# Altium integrated library Transistor.IntLib: 3457 symbols (part 24 of 78)
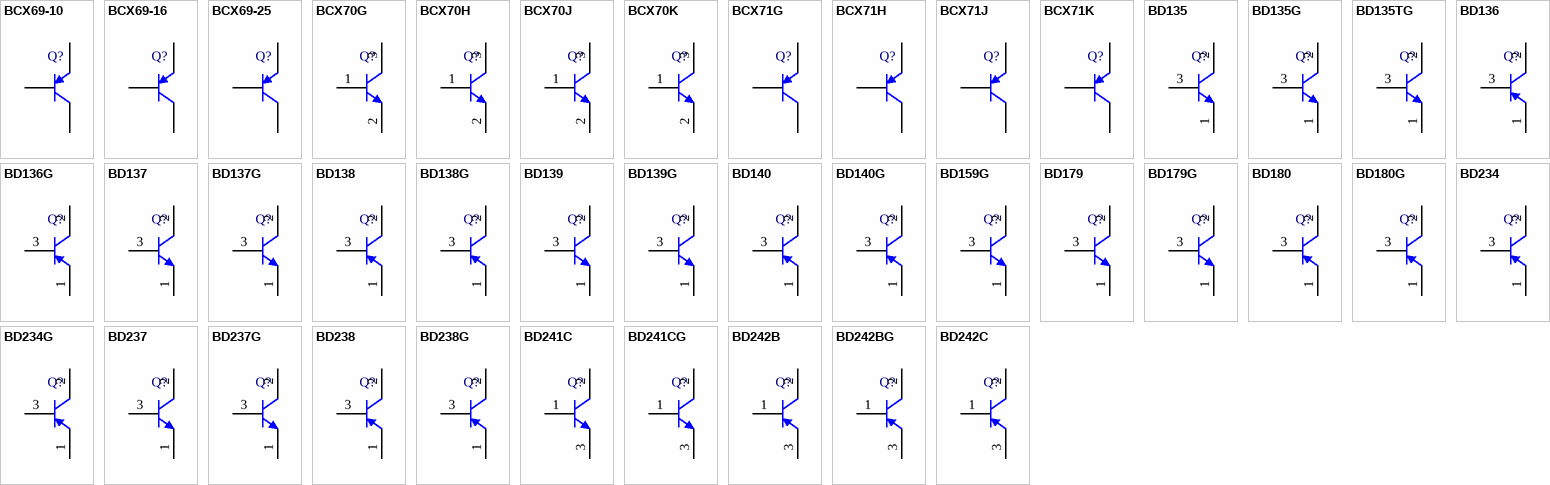
[diagram p117: symbols BCX69-10 to BD242C]

## BCX69-16
designator Q?
PNP Silicon AF Transistor, 20 V VCEO, 1000 mA IC, SOT89, Reel, Green; Manufacturer: Infineon; PartNumber: BCX69-16; fT (typ): 100 MHz; Green: TRUE; IC: 1,000 mA; ICBO (max): 100 nA; ICM (max): 2,000 mA; Ptot (max): 3,000 mW; VCBO (max): 25 V; VCE: 1 V; VCEO (max): 20 V; VEBO (max): 5 V; PackageVersion: Apr-08; PackageReference: SOT89 (SC-62); PackageDescription: 3-Pin Small Outline Transistor Package, 4.5 x 2.5 mm Body, 1.5 mm Pitch; Supplier 1: Mouser; Supplier Part Number 1: N/A; IC (max): 1,000 mA; Packing: Reel; Polarity: PNP; Mounting Technology: Surface Mount; ComponentLink1Description: Manufacturer URL; ComponentLink1URL: http://www.infineon.com/; ComponentLink2Description: Datasheet; ComponentLink2URL: http://www.infineon.com/dgdl/bcx69.pdf?folderId=db3a304314dca38901155ffc06d51dc7&fileId=db3a3043156fd573011589f3f56603ee; ComponentLink3Description: Package Specification; ComponentLink3URL: http://www.infineon.com/dgdl/SOT89-Package_Overview.pdf?folderId=db3a30431936bc4b01195371b8363cff&fileId=db3a30431936bc4b0119537ed61d3d22
footprint INF-SOT89_SC-62_N (SOT89, 3-Leads, Body 4.5x2.5mm, Pitch 1.5mm, IPC Medium Density)
footprint INF-SOT89_SC-62_L (SOT89, 3-Leads, Body 4.5x2.5mm, Pitch 1.5mm, IPC High Density)
footprint INF-SOT89_SC-62_M (SOT89, 3-Leads, Body 4.5x2.5mm, Pitch 1.5mm, IPC Low Density)
pins: 1 B, 2 C, 3 E

## BCX69-25
designator Q?
PNP Silicon AF Transistor, 20 V VCEO, 1000 mA IC, SOT89, Reel, Green; Manufacturer: Infineon; PartNumber: BCX69-25; fT (typ): 100 MHz; Green: TRUE; IC: 1,000 mA; ICBO (max): 100 nA; ICM (max): 2,000 mA; Ptot (max): 3,000 mW; VCBO (max): 25 V; VCE: 1 V; VCEO (max): 20 V; VEBO (max): 5 V; PackageVersion: Apr-08; PackageReference: SOT89 (SC-62); PackageDescription: 3-Pin Small Outline Transistor Package, 4.5 x 2.5 mm Body, 1.5 mm Pitch; Supplier 1: Mouser; Supplier Part Number 1: N/A; IC (max): 1,000 mA; Packing: Reel; Polarity: PNP; Mounting Technology: Surface Mount; ComponentLink1Description: Manufacturer URL; ComponentLink1URL: http://www.infineon.com/; ComponentLink2Description: Datasheet; ComponentLink2URL: http://www.infineon.com/dgdl/bcx69.pdf?folderId=db3a304314dca38901155ffc06d51dc7&fileId=db3a3043156fd573011589f3f56603ee; ComponentLink3Description: Package Specification; ComponentLink3URL: http://www.infineon.com/dgdl/SOT89-Package_Overview.pdf?folderId=db3a30431936bc4b01195371b8363cff&fileId=db3a30431936bc4b0119537ed61d3d22
footprint INF-SOT89_SC-62_N (SOT89, 3-Leads, Body 4.5x2.5mm, Pitch 1.5mm, IPC Medium Density)
footprint INF-SOT89_SC-62_L (SOT89, 3-Leads, Body 4.5x2.5mm, Pitch 1.5mm, IPC High Density)
footprint INF-SOT89_SC-62_M (SOT89, 3-Leads, Body 4.5x2.5mm, Pitch 1.5mm, IPC Low Density)
pins: 1 B, 2 C, 3 E

## BCX70G
designator Q?
NPN Silicon AF Transistor, 45 V VCEO, 100 mA IC, SOT23, Reel, Green; Manufacturer: Infineon; PartNumber: BCX70G; F (typ): 2 dB; fT (typ): 250 MHz; Green: TRUE; IBM (max): 200 mA; IC (max): 100 mA; ICBO (max): 20 nA; Ptot (max): 330 mW; VCBO (max): 45 V; VEBO (max): 6 V; PackageVersion: Apr-08; PackageReference: SOT23; PackageDescription: 3-Pin Small Outline Transistor Package, 1.3 x 2.9 mm Body, 0.95 mm Pitch; ICM (max): 200 mA; Packing: Reel; Polarity: NPN; VCEO (max): 45 V; Mounting Technology: Surface Mount; ComponentLink1Description: Manufacturer URL; ComponentLink1URL: http://www.infineon.com/; ComponentLink2Description: Datasheet; ComponentLink2URL: http://www.infineon.com/dgdl/bcw60_bcx70.pdf?folderId=db3a304314dca389011541d30fa21656&fileId=db3a304314dca38901154219c9141726; ComponentLink3Description: Package Specification; ComponentLink3URL: http://www.infineon.com/dgdl/SOT23-Package_Overview.pdf?folderId=db3a30431936bc4b0119532290053c66&fileId=db3a30431936bc4b0119533468123c85
footprint INF-SOT23_N (SOT23, 3-Leads, Body 2.9x1.3 mm, Pitch 0.95 mm, IPC Medium Density)
footprint INF-SOT23_L (SOT23, 3-Leads, Body 2.9x1.3 mm, Pitch 0.95 mm, IPC High Density)
footprint INF-SOT23_M (SOT23, 3-Leads, Body 2.9x1.3 mm, Pitch 0.95 mm, IPC Low Density)
pins: 1 B, 2 E, 3 C

## BCX70H
designator Q?
NPN Silicon AF Transistor, 45 V VCEO, 100 mA IC, SOT23, Reel, Green; Manufacturer: Infineon; PartNumber: BCX70H; F (typ): 2 dB; fT (typ): 250 MHz; Green: TRUE; IBM (max): 200 mA; IC (max): 100 mA; ICBO (max): 20 nA; Ptot (max): 330 mW; VCBO (max): 45 V; VEBO (max): 6 V; PackageVersion: Apr-08; PackageReference: SOT23; PackageDescription: 3-Pin Small Outline Transistor Package, 1.3 x 2.9 mm Body, 0.95 mm Pitch; Supplier 1: Arrow; Supplier Part Number 1: FTOF-B2iecUyD4HHQZ6z38XLvdhF-FXEEL7tAjIsqBs; ICM (max): 200 mA; Packing: Reel; Polarity: NPN; VCEO (max): 45 V; Mounting Technology: Surface Mount; ComponentLink1Description: Manufacturer URL; ComponentLink1URL: http://www.infineon.com/; ComponentLink2Description: Datasheet; ComponentLink2URL: http://www.infineon.com/dgdl/bcw60_bcx70.pdf?folderId=db3a304314dca389011541d30fa21656&fileId=db3a304314dca38901154219c9141726; ComponentLink3Description: Package Specification; ComponentLink3URL: http://www.infineon.com/dgdl/SOT23-Package_Overview.pdf?folderId=db3a30431936bc4b0119532290053c66&fileId=db3a30431936bc4b0119533468123c85
footprint INF-SOT23_N (SOT23, 3-Leads, Body 2.9x1.3 mm, Pitch 0.95 mm, IPC Medium Density)
footprint INF-SOT23_L (SOT23, 3-Leads, Body 2.9x1.3 mm, Pitch 0.95 mm, IPC High Density)
footprint INF-SOT23_M (SOT23, 3-Leads, Body 2.9x1.3 mm, Pitch 0.95 mm, IPC Low Density)
pins: 1 B, 2 E, 3 C

## BCX70J
designator Q?
NPN Silicon AF Transistor, 45 V VCEO, 100 mA IC, SOT23, Reel, Green; Manufacturer: Infineon; PartNumber: BCX70J; F (typ): 2 dB; fT (typ): 250 MHz; Green: TRUE; IBM (max): 200 mA; IC (max): 100 mA; ICBO (max): 20 nA; Ptot (max): 330 mW; VCBO (max): 45 V; VEBO (max): 6 V; PackageVersion: Apr-08; PackageReference: SOT23; PackageDescription: 3-Pin Small Outline Transistor Package, 1.3 x 2.9 mm Body, 0.95 mm Pitch; ICM (max): 200 mA; Packing: Reel; Polarity: NPN; VCEO (max): 45 V; Mounting Technology: Surface Mount; ComponentLink1Description: Manufacturer URL; ComponentLink1URL: http://www.infineon.com/; ComponentLink2Description: Datasheet; ComponentLink2URL: http://www.infineon.com/dgdl/bcw60_bcx70.pdf?folderId=db3a304314dca389011541d30fa21656&fileId=db3a304314dca38901154219c9141726; ComponentLink3Description: Package Specification; ComponentLink3URL: http://www.infineon.com/dgdl/SOT23-Package_Overview.pdf?folderId=db3a30431936bc4b0119532290053c66&fileId=db3a30431936bc4b0119533468123c85
footprint INF-SOT23_N (SOT23, 3-Leads, Body 2.9x1.3 mm, Pitch 0.95 mm, IPC Medium Density)
footprint INF-SOT23_L (SOT23, 3-Leads, Body 2.9x1.3 mm, Pitch 0.95 mm, IPC High Density)
footprint INF-SOT23_M (SOT23, 3-Leads, Body 2.9x1.3 mm, Pitch 0.95 mm, IPC Low Density)
pins: 1 B, 2 E, 3 C

## BCX70K
designator Q?
NPN Silicon AF Transistor, 45 V VCEO, 100 mA IC, SOT23, Reel, Green; Manufacturer: Infineon; PartNumber: BCX70K; F (typ): 2 dB; fT (typ): 250 MHz; Green: TRUE; IBM (max): 200 mA; IC (max): 100 mA; ICBO (max): 20 nA; Ptot (max): 330 mW; VCBO (max): 45 V; VEBO (max): 6 V; PackageVersion: Apr-08; PackageReference: SOT23; PackageDescription: 3-Pin Small Outline Transistor Package, 1.3 x 2.9 mm Body, 0.95 mm Pitch; ICM (max): 200 mA; Packing: Reel; Polarity: NPN; VCEO (max): 45 V; Mounting Technology: Surface Mount; ComponentLink1Description: Manufacturer URL; ComponentLink1URL: http://www.infineon.com/; ComponentLink2Description: Datasheet; ComponentLink2URL: http://www.infineon.com/dgdl/bcw60_bcx70.pdf?folderId=db3a304314dca389011541d30fa21656&fileId=db3a304314dca38901154219c9141726; ComponentLink3Description: Package Specification; ComponentLink3URL: http://www.infineon.com/dgdl/SOT23-Package_Overview.pdf?folderId=db3a30431936bc4b0119532290053c66&fileId=db3a30431936bc4b0119533468123c85
footprint INF-SOT23_N (SOT23, 3-Leads, Body 2.9x1.3 mm, Pitch 0.95 mm, IPC Medium Density)
footprint INF-SOT23_L (SOT23, 3-Leads, Body 2.9x1.3 mm, Pitch 0.95 mm, IPC High Density)
footprint INF-SOT23_M (SOT23, 3-Leads, Body 2.9x1.3 mm, Pitch 0.95 mm, IPC Low Density)
pins: 1 B, 2 E, 3 C

## BCX71G
designator Q?
PNP Silicon AF Transistor, 45 V VCEO, 100 mA IC, SOT23, Reel, Green; Manufacturer: Infineon; PartNumber: BCX71G; fT (typ): 250 MHz; Green: TRUE; IBM (max): 200 mA; IC (max): 100 mA; ICBO (max): 20 nA; Ptot (max): 330 mW; VCBO (max): 45 V; VEBO (max): 5 V; PackageVersion: Apr-08; PackageReference: SOT23; PackageDescription: 3-Pin Small Outline Transistor Package, 1.3 x 2.9 mm Body, 0.95 mm Pitch; ICM (max): 200 mA; Packing: Reel; Polarity: PNP; VCEO (max): 45 V; Mounting Technology: Surface Mount; ComponentLink1Description: Manufacturer URL; ComponentLink1URL: http://www.infineon.com/; ComponentLink2Description: Datasheet; ComponentLink2URL: http://www.infineon.com/dgdl/bcw61_bcx71.pdf?folderId=db3a304314dca389011541d30fa21656&fileId=db3a304314dca3890115422f2cbc173b; ComponentLink3Description: Package Specification; ComponentLink3URL: http://www.infineon.com/dgdl/SOT23-Package_Overview.pdf?folderId=db3a30431936bc4b0119532290053c66&fileId=db3a30431936bc4b0119533468123c85
footprint INF-SOT23_N (SOT23, 3-Leads, Body 2.9x1.3 mm, Pitch 0.95 mm, IPC Medium Density)
footprint INF-SOT23_L (SOT23, 3-Leads, Body 2.9x1.3 mm, Pitch 0.95 mm, IPC High Density)
footprint INF-SOT23_M (SOT23, 3-Leads, Body 2.9x1.3 mm, Pitch 0.95 mm, IPC Low Density)
pins: 1 B, 2 E, 3 C

## BCX71H
designator Q?
PNP Silicon AF Transistor, 45 V VCEO, 100 mA IC, SOT23, Reel, Green; Manufacturer: Infineon; PartNumber: BCX71H; fT (typ): 250 MHz; Green: TRUE; IBM (max): 200 mA; IC (max): 100 mA; ICBO (max): 20 nA; Ptot (max): 330 mW; VCBO (max): 45 V; VEBO (max): 5 V; PackageVersion: Apr-08; PackageReference: SOT23; PackageDescription: 3-Pin Small Outline Transistor Package, 1.3 x 2.9 mm Body, 0.95 mm Pitch; ICM (max): 200 mA; Packing: Reel; Polarity: PNP; VCEO (max): 45 V; Mounting Technology: Surface Mount; ComponentLink1Description: Manufacturer URL; ComponentLink1URL: http://www.infineon.com/; ComponentLink2Description: Datasheet; ComponentLink2URL: http://www.infineon.com/dgdl/bcw61_bcx71.pdf?folderId=db3a304314dca389011541d30fa21656&fileId=db3a304314dca3890115422f2cbc173b; ComponentLink3Description: Package Specification; ComponentLink3URL: http://www.infineon.com/dgdl/SOT23-Package_Overview.pdf?folderId=db3a30431936bc4b0119532290053c66&fileId=db3a30431936bc4b0119533468123c85
footprint INF-SOT23_N (SOT23, 3-Leads, Body 2.9x1.3 mm, Pitch 0.95 mm, IPC Medium Density)
footprint INF-SOT23_L (SOT23, 3-Leads, Body 2.9x1.3 mm, Pitch 0.95 mm, IPC High Density)
footprint INF-SOT23_M (SOT23, 3-Leads, Body 2.9x1.3 mm, Pitch 0.95 mm, IPC Low Density)
pins: 1 B, 2 E, 3 C

## BCX71J
designator Q?
PNP Silicon AF Transistor, 45 V VCEO, 100 mA IC, SOT23, Reel, Green; Manufacturer: Infineon; PartNumber: BCX71J; fT (typ): 250 MHz; Green: TRUE; IBM (max): 200 mA; IC (max): 100 mA; ICBO (max): 20 nA; Ptot (max): 330 mW; VCBO (max): 45 V; VEBO (max): 5 V; PackageVersion: Apr-08; PackageReference: SOT23; PackageDescription: 3-Pin Small Outline Transistor Package, 1.3 x 2.9 mm Body, 0.95 mm Pitch; ICM (max): 200 mA; Packing: Reel; Polarity: PNP; VCEO (max): 45 V; Mounting Technology: Surface Mount; ComponentLink1Description: Manufacturer URL; ComponentLink1URL: http://www.infineon.com/; ComponentLink2Description: Datasheet; ComponentLink2URL: http://www.infineon.com/dgdl/bcw61_bcx71.pdf?folderId=db3a304314dca389011541d30fa21656&fileId=db3a304314dca3890115422f2cbc173b; ComponentLink3Description: Package Specification; ComponentLink3URL: http://www.infineon.com/dgdl/SOT23-Package_Overview.pdf?folderId=db3a30431936bc4b0119532290053c66&fileId=db3a30431936bc4b0119533468123c85
footprint INF-SOT23_N (SOT23, 3-Leads, Body 2.9x1.3 mm, Pitch 0.95 mm, IPC Medium Density)
footprint INF-SOT23_L (SOT23, 3-Leads, Body 2.9x1.3 mm, Pitch 0.95 mm, IPC High Density)
footprint INF-SOT23_M (SOT23, 3-Leads, Body 2.9x1.3 mm, Pitch 0.95 mm, IPC Low Density)
pins: 1 B, 2 E, 3 C

## BCX71K
designator Q?
PNP Silicon AF Transistor, 45 V VCEO, 100 mA IC, SOT23, Reel, Green; Manufacturer: Infineon; PartNumber: BCX71K; F (typ): 2 dB; fT (typ): 250 MHz; Green: TRUE; IBM (max): 200 mA; IC (max): 100 mA; ICBO (max): 20 nA; Ptot (max): 330 mW; VCBO (max): 45 V; VEBO (max): 5 V; PackageVersion: Apr-08; PackageReference: SOT23; PackageDescription: 3-Pin Small Outline Transistor Package, 1.3 x 2.9 mm Body, 0.95 mm Pitch; ICM (max): 200 mA; Packing: Reel; Polarity: PNP; VCEO (max): 45 V; Mounting Technology: Surface Mount; ComponentLink1Description: Manufacturer URL; ComponentLink1URL: http://www.infineon.com/; ComponentLink2Description: Datasheet; ComponentLink2URL: http://www.infineon.com/dgdl/bcw61_bcx71.pdf?folderId=db3a304314dca389011541d30fa21656&fileId=db3a304314dca3890115422f2cbc173b; ComponentLink3Description: Package Specification; ComponentLink3URL: http://www.infineon.com/dgdl/SOT23-Package_Overview.pdf?folderId=db3a30431936bc4b0119532290053c66&fileId=db3a30431936bc4b0119533468123c85
footprint INF-SOT23_N (SOT23, 3-Leads, Body 2.9x1.3 mm, Pitch 0.95 mm, IPC Medium Density)
footprint INF-SOT23_L (SOT23, 3-Leads, Body 2.9x1.3 mm, Pitch 0.95 mm, IPC High Density)
footprint INF-SOT23_M (SOT23, 3-Leads, Body 2.9x1.3 mm, Pitch 0.95 mm, IPC Low Density)
pins: 1 B, 2 E, 3 C

## BD135
designator Q?
Plastic Medium-Power Silicon NPN Transistor, 3-Pin TO-225, Bulk Box; Manufacturer: On Semiconductor; PartNumber: BD135; IC Continuous (A): 1.5; DatasheetVersion: Rev. 16; PackageVersion: Rev. AC, 12/2013; PackageReference: TO-225-3-77-09; PackageDescription: 3-Pin Flange Mount, Vertical Straight Lead, Body 7.6 x 2.7 mm, Pitch 2.29 mm; Supplier 1: Digi-Key; Supplier Part Number 1: BD135OS-ND; Packing: Bulk Box; Polarity: NPN; RoHS: FALSE; Mounting Technology: Through Hole; ComponentLink1Description: Manufacturer URL; ComponentLink1URL: http://www.onsemi.com/; ComponentLink2Description: Datasheet; ComponentLink2URL: http://www.onsemi.com/pub_link/Collateral/BD135-D.PDF; ComponentLink3Description: Package Specification; ComponentLink3URL: http://www.onsemi.com/pub_link/Collateral/77-09.PDF
footprint ONSC-TO-225-3-77-09 (FM, 3-Leads, Body 7.8x3mm, Pitch 2.29mm)
pins: 1 E, 2 C, 3 B

## BD135G
designator Q?
Plastic Medium-Power Silicon NPN Transistor, 3-Pin TO-225, Pb-Free, Bulk Box; Manufacturer: On Semiconductor; PartNumber: BD135G; IC Continuous (A): 1.5; DatasheetVersion: Rev. 16; PackageVersion: Rev. AC, 12/2013; PackageReference: TO-225-3-77-09; PackageDescription: 3-Pin Flange Mount, Vertical Straight Lead, Body 7.6 x 2.7 mm, Pitch 2.29 mm; Supplier 1: Digi-Key; Supplier Part Number 1: BD135GOS-ND; Supplier 2: Farnell; Supplier Part Number 2: 1125946; Supplier 3: Newark; Supplier Part Number 3: 26K3491; Supplier 4: Mouser; Supplier Part Number 4: 863-BD135G; Packing: Bulk Box; Polarity: NPN; RoHS: TRUE; Mounting Technology: Through Hole; ComponentLink1Description: Manufacturer URL; ComponentLink1URL: http://www.onsemi.com/; ComponentLink2Description: Datasheet; ComponentLink2URL: http://www.onsemi.com/pub_link/Collateral/BD135-D.PDF; ComponentLink3Description: Package Specification; ComponentLink3URL: http://www.onsemi.com/pub_link/Collateral/77-09.PDF
footprint ONSC-TO-225-3-77-09 (FM, 3-Leads, Body 7.8x3mm, Pitch 2.29mm)
pins: 1 E, 2 C, 3 B

## BD135TG
designator Q?
Plastic Medium-Power Silicon NPN Transistor, 3-Pin TO-225, Pb-Free, Tube; Manufacturer: On Semiconductor; PartNumber: BD135TG; Note: 0; IC Continuous (A): 1.5; DatasheetVersion: Rev. 16; PackageVersion: Rev. AC, 12/2013; PackageReference: TO-225-3-77-09; PackageDescription: 3-Pin Flange Mount, Vertical Straight Lead, Body 7.6 x 2.7 mm, Pitch 2.29 mm; Packing: Tube; Polarity: NPN; RoHS: TRUE; Mounting Technology: Through Hole; ComponentLink1Description: Manufacturer URL; ComponentLink1URL: http://www.onsemi.com/; ComponentLink2Description: Datasheet; ComponentLink2URL: http://www.onsemi.com/pub_link/Collateral/BD135-D.PDF; ComponentLink3Description: Package Specification; ComponentLink3URL: http://www.onsemi.com/pub_link/Collateral/77-09.PDF
footprint ONSC-TO-225-3-77-09 (FM, 3-Leads, Body 7.8x3mm, Pitch 2.29mm)
pins: 1 E, 2 C, 3 B

## BD136
designator Q?
Plastic Medium-Power Silicon PNP Transistor, 3-Pin TO-225, Bulk Box; Manufacturer: On Semiconductor; PartNumber: BD136; IC Continuous (A): 1.5; DatasheetVersion: Rev. 15; PackageVersion: Rev. AC, 12/2013; PackageReference: TO-225-3-77-09; PackageDescription: 3-Pin Flange Mount, Vertical Straight Lead, Body 7.6 x 2.7 mm, Pitch 2.29 mm; Supplier 1: Digi-Key; Supplier Part Number 1: BD136OS-ND; Packing: Bulk Box; Polarity: PNP; RoHS: FALSE; Mounting Technology: Through Hole; ComponentLink1Description: Manufacturer URL; ComponentLink1URL: http://www.onsemi.com/; ComponentLink2Description: Datasheet; ComponentLink2URL: http://www.onsemi.com/pub_link/Collateral/BD136-D.PDF; ComponentLink3Description: Package Specification; ComponentLink3URL: http://www.onsemi.com/pub_link/Collateral/77-09.PDF
footprint ONSC-TO-225-3-77-09 (FM, 3-Leads, Body 7.8x3mm, Pitch 2.29mm)
pins: 1 E, 2 C, 3 B

## BD136G
designator Q?
Plastic Medium-Power Silicon PNP Transistor, 3-Pin TO-225, Pb-Free, Bulk Box; Manufacturer: On Semiconductor; PartNumber: BD136G; IC Continuous (A): 1.5; DatasheetVersion: Rev. 15; PackageVersion: Rev. AC, 12/2013; PackageReference: TO-225-3-77-09; PackageDescription: 3-Pin Flange Mount, Vertical Straight Lead, Body 7.6 x 2.7 mm, Pitch 2.29 mm; Supplier 1: Digi-Key; Supplier Part Number 1: BD136GOS-ND; Supplier 2: Newark; Supplier Part Number 2: 88H4575; Supplier 3: Mouser; Supplier Part Number 3: 863-BD136G; Packing: Bulk Box; Polarity: PNP; RoHS: TRUE; Mounting Technology: Through Hole; ComponentLink1Description: Manufacturer URL; ComponentLink1URL: http://www.onsemi.com/; ComponentLink2Description: Datasheet; ComponentLink2URL: http://www.onsemi.com/pub_link/Collateral/BD136-D.PDF; ComponentLink3Description: Package Specification; ComponentLink3URL: http://www.onsemi.com/pub_link/Collateral/77-09.PDF
footprint ONSC-TO-225-3-77-09 (FM, 3-Leads, Body 7.8x3mm, Pitch 2.29mm)
pins: 1 E, 2 C, 3 B

## BD137
designator Q?
Plastic Medium-Power Silicon NPN Transistor, 3-Pin TO-225, Bulk Box; Manufacturer: On Semiconductor; PartNumber: BD137; IC Continuous (A): 1.5; DatasheetVersion: Rev. 16; PackageVersion: Rev. AC, 12/2013; PackageReference: TO-225-3-77-09; PackageDescription: 3-Pin Flange Mount, Vertical Straight Lead, Body 7.6 x 2.7 mm, Pitch 2.29 mm; Supplier 1: Digi-Key; Supplier Part Number 1: BD137-ND; Packing: Bulk Box; Polarity: NPN; RoHS: FALSE; Mounting Technology: Through Hole; ComponentLink1Description: Manufacturer URL; ComponentLink1URL: http://www.onsemi.com/; ComponentLink2Description: Datasheet; ComponentLink2URL: http://www.onsemi.com/pub_link/Collateral/BD135-D.PDF; ComponentLink3Description: Package Specification; ComponentLink3URL: http://www.onsemi.com/pub_link/Collateral/77-09.PDF
footprint ONSC-TO-225-3-77-09 (FM, 3-Leads, Body 7.8x3mm, Pitch 2.29mm)
pins: 1 E, 2 C, 3 B

## BD137G
designator Q?
Plastic Medium-Power Silicon NPN Transistor, 3-Pin TO-225, Pb-Free, Bulk Box; Manufacturer: On Semiconductor; PartNumber: BD137G; IC Continuous (A): 1.5; DatasheetVersion: Rev. 16; PackageVersion: Rev. AC, 12/2013; PackageReference: TO-225-3-77-09; PackageDescription: 3-Pin Flange Mount, Vertical Straight Lead, Body 7.6 x 2.7 mm, Pitch 2.29 mm; Supplier 1: Digi-Key; Supplier Part Number 1: BD137GOS-ND; Supplier 2: Farnell; Supplier Part Number 2: 1653612; Supplier 3: Newark; Supplier Part Number 3: 26K3492; Supplier 4: Mouser; Supplier Part Number 4: 863-BD137G; Packing: Bulk Box; Polarity: NPN; RoHS: TRUE; Mounting Technology: Through Hole; ComponentLink1Description: Manufacturer URL; ComponentLink1URL: http://www.onsemi.com/; ComponentLink2Description: Datasheet; ComponentLink2URL: http://www.onsemi.com/pub_link/Collateral/BD135-D.PDF; ComponentLink3Description: Package Specification; ComponentLink3URL: http://www.onsemi.com/pub_link/Collateral/77-09.PDF
footprint ONSC-TO-225-3-77-09 (FM, 3-Leads, Body 7.8x3mm, Pitch 2.29mm)
pins: 1 E, 2 C, 3 B

## BD138
designator Q?
Plastic Medium-Power Silicon PNP Transistor, 3-Pin TO-225, Bulk Box; Manufacturer: On Semiconductor; PartNumber: BD138; IC Continuous (A): 1.5; DatasheetVersion: Rev. 15; PackageVersion: Rev. AC, 12/2013; PackageReference: TO-225-3-77-09; PackageDescription: 3-Pin Flange Mount, Vertical Straight Lead, Body 7.6 x 2.7 mm, Pitch 2.29 mm; Supplier 1: Digi-Key; Supplier Part Number 1: BD138-ND; Packing: Bulk Box; Polarity: PNP; RoHS: FALSE; Mounting Technology: Through Hole; ComponentLink1Description: Manufacturer URL; ComponentLink1URL: http://www.onsemi.com/; ComponentLink2Description: Datasheet; ComponentLink2URL: http://www.onsemi.com/pub_link/Collateral/BD136-D.PDF; ComponentLink3Description: Package Specification; ComponentLink3URL: http://www.onsemi.com/pub_link/Collateral/77-09.PDF
footprint ONSC-TO-225-3-77-09 (FM, 3-Leads, Body 7.8x3mm, Pitch 2.29mm)
pins: 1 E, 2 C, 3 B

## BD138G
designator Q?
Plastic Medium-Power Silicon PNP Transistor, 3-Pin TO-225, Pb-Free, Bulk Box; Manufacturer: On Semiconductor; PartNumber: BD138G; IC Continuous (A): 1.5; DatasheetVersion: Rev. 15; PackageVersion: Rev. AC, 12/2013; PackageReference: TO-225-3-77-09; PackageDescription: 3-Pin Flange Mount, Vertical Straight Lead, Body 7.6 x 2.7 mm, Pitch 2.29 mm; Supplier 1: Digi-Key; Supplier Part Number 1: BD138GOS-ND; Supplier 2: Newark; Supplier Part Number 2: 26K3493; Supplier 3: Mouser; Supplier Part Number 3: 863-BD138G; Packing: Bulk Box; Polarity: PNP; RoHS: TRUE; Mounting Technology: Through Hole; ComponentLink1Description: Manufacturer URL; ComponentLink1URL: http://www.onsemi.com/; ComponentLink2Description: Datasheet; ComponentLink2URL: http://www.onsemi.com/pub_link/Collateral/BD136-D.PDF; ComponentLink3Description: Package Specification; ComponentLink3URL: http://www.onsemi.com/pub_link/Collateral/77-09.PDF
footprint ONSC-TO-225-3-77-09 (FM, 3-Leads, Body 7.8x3mm, Pitch 2.29mm)
pins: 1 E, 2 C, 3 B

## BD139
designator Q?
Plastic Medium-Power Silicon NPN Transistor, 3-Pin TO-225, Bulk Box; Manufacturer: On Semiconductor; PartNumber: BD139; IC Continuous (A): 1.5; DatasheetVersion: Rev. 16; PackageVersion: Rev. AC, 12/2013; PackageReference: TO-225-3-77-09; PackageDescription: 3-Pin Flange Mount, Vertical Straight Lead, Body 7.6 x 2.7 mm, Pitch 2.29 mm; Supplier 1: Digi-Key; Supplier Part Number 1: BD139OS-ND; Packing: Bulk Box; Polarity: NPN; RoHS: FALSE; Mounting Technology: Through Hole; ComponentLink1Description: Manufacturer URL; ComponentLink1URL: http://www.onsemi.com/; ComponentLink2Description: Datasheet; ComponentLink2URL: http://www.onsemi.com/pub_link/Collateral/BD135-D.PDF; ComponentLink3Description: Package Specification; ComponentLink3URL: http://www.onsemi.com/pub_link/Collateral/77-09.PDF
footprint ONSC-TO-225-3-77-09 (FM, 3-Leads, Body 7.8x3mm, Pitch 2.29mm)
pins: 1 E, 2 C, 3 B

## BD139G
designator Q?
Plastic Medium-Power Silicon NPN Transistor, 3-Pin TO-225, Pb-Free, Bulk Box; Manufacturer: On Semiconductor; PartNumber: BD139G; IC Continuous (A): 1.5; DatasheetVersion: Rev. 16; PackageVersion: Rev. AC, 12/2013; PackageReference: TO-225-3-77-09; PackageDescription: 3-Pin Flange Mount, Vertical Straight Lead, Body 7.6 x 2.7 mm, Pitch 2.29 mm; Supplier 1: Digi-Key; Supplier Part Number 1: BD139GOS-ND; Supplier 2: Farnell; Supplier Part Number 2: 9556052; Supplier 3: Newark; Supplier Part Number 3: 45J0613; Supplier 4: Mouser; Supplier Part Number 4: 863-BD139G; Packing: Bulk Box; Polarity: NPN; RoHS: TRUE; Mounting Technology: Through Hole; ComponentLink1Description: Manufacturer URL; ComponentLink1URL: http://www.onsemi.com/; ComponentLink2Description: Datasheet; ComponentLink2URL: http://www.onsemi.com/pub_link/Collateral/BD135-D.PDF; ComponentLink3Description: Package Specification; ComponentLink3URL: http://www.onsemi.com/pub_link/Collateral/77-09.PDF
footprint ONSC-TO-225-3-77-09 (FM, 3-Leads, Body 7.8x3mm, Pitch 2.29mm)
pins: 1 E, 2 C, 3 B

## BD140
designator Q?
Plastic Medium-Power Silicon PNP Transistor, 3-Pin TO-225, Bulk Box; Manufacturer: On Semiconductor; PartNumber: BD140; IC Continuous (A): 1.5; DatasheetVersion: Rev. 15; PackageVersion: Rev. AC, 12/2013; PackageReference: TO-225-3-77-09; PackageDescription: 3-Pin Flange Mount, Vertical Straight Lead, Body 7.6 x 2.7 mm, Pitch 2.29 mm; Supplier 1: Digi-Key; Supplier Part Number 1: BD140OS-ND; Packing: Bulk Box; Polarity: PNP; RoHS: FALSE; Mounting Technology: Through Hole; ComponentLink1Description: Manufacturer URL; ComponentLink1URL: http://www.onsemi.com/; ComponentLink2Description: Datasheet; ComponentLink2URL: http://www.onsemi.com/pub_link/Collateral/BD136-D.PDF; ComponentLink3Description: Package Specification; ComponentLink3URL: http://www.onsemi.com/pub_link/Collateral/77-09.PDF
footprint ONSC-TO-225-3-77-09 (FM, 3-Leads, Body 7.8x3mm, Pitch 2.29mm)
pins: 1 E, 2 C, 3 B

## BD140G
designator Q?
Plastic Medium-Power Silicon PNP Transistor, 3-Pin TO-225, Pb-Free, Bulk Box; Manufacturer: On Semiconductor; PartNumber: BD140G; IC Continuous (A): 1.5; DatasheetVersion: Rev. 15; PackageVersion: Rev. AC, 12/2013; PackageReference: TO-225-3-77-09; PackageDescription: 3-Pin Flange Mount, Vertical Straight Lead, Body 7.6 x 2.7 mm, Pitch 2.29 mm; Supplier 1: Digi-Key; Supplier Part Number 1: BD140GOS-ND; Supplier 2: Farnell; Supplier Part Number 2: 9556060; Supplier 3: Newark; Supplier Part Number 3: 26K3494; Supplier 4: Mouser; Supplier Part Number 4: 863-BD140G; Packing: Bulk Box; Polarity: PNP; RoHS: TRUE; Mounting Technology: Through Hole; ComponentLink1Description: Manufacturer URL; ComponentLink1URL: http://www.onsemi.com/; ComponentLink2Description: Datasheet; ComponentLink2URL: http://www.onsemi.com/pub_link/Collateral/BD136-D.PDF; ComponentLink3Description: Package Specification; ComponentLink3URL: http://www.onsemi.com/pub_link/Collateral/77-09.PDF
footprint ONSC-TO-225-3-77-09 (FM, 3-Leads, Body 7.8x3mm, Pitch 2.29mm)
pins: 1 E, 2 C, 3 B

## BD159G
designator Q?
Plastic Medium-Power, Silicon NPN Transistor, 3-Pin TO-225, Pb-Free, Bulk Box; Manufacturer: On Semiconductor; PartNumber: BD159G; IC Continuous (A): 0.5; DatasheetVersion: Rev. 6; PackageVersion: Rev. AC, 12/2013; PackageReference: TO-225-3-77-09; PackageDescription: 3-Pin Flange Mount, Vertical Straight Lead, Body 7.6 x 2.7 mm, Pitch 2.29 mm; Supplier 1: Digi-Key; Supplier Part Number 1: BD159GOS-ND; Supplier 2: Newark; Supplier Part Number 2: 26K3495; Supplier 3: Mouser; Supplier Part Number 3: 863-BD159G; Packing: Bulk Box; Polarity: NPN; RoHS: TRUE; Mounting Technology: Through Hole; ComponentLink1Description: Manufacturer URL; ComponentLink1URL: http://www.onsemi.com/; ComponentLink2Description: Datasheet; ComponentLink2URL: http://www.onsemi.com/pub_link/Collateral/BD159-D.PDF; ComponentLink3Description: Package Specification; ComponentLink3URL: http://www.onsemi.com/pub_link/Collateral/77-09.PDF
footprint ONSC-TO-225-3-77-09 (FM, 3-Leads, Body 7.8x3mm, Pitch 2.29mm)
pins: 1 E, 2 C, 3 B

## BD179
designator Q?
Plastic Medium-Power, Silicon NPN Transistor, 3-Pin TO-225, Bulk Box; Manufacturer: On Semiconductor; PartNumber: BD179; fT Min (MHz): 3; DatasheetVersion: Rev. 15; PackageVersion: Rev. AC, 12/2013; PackageReference: TO-225-3-77-09; PackageDescription: 3-Pin Flange Mount, Vertical Straight Lead, Body 7.6 x 2.7 mm, Pitch 2.29 mm; Supplier 1: Digi-Key; Supplier Part Number 1: BD179-ND; IC Continuous (A): 3; Packing: Bulk Box; Polarity: NPN; RoHS: FALSE; Mounting Technology: Through Hole; ComponentLink1Description: Manufacturer URL; ComponentLink1URL: http://www.onsemi.com/; ComponentLink2Description: Datasheet; ComponentLink2URL: http://www.onsemi.com/pub_link/Collateral/BD179-D.PDF; ComponentLink3Description: Package Specification; ComponentLink3URL: http://www.onsemi.com/pub_link/Collateral/77-09.PDF
footprint ONSC-TO-225-3-77-09 (FM, 3-Leads, Body 7.8x3mm, Pitch 2.29mm)
pins: 1 E, 2 C, 3 B

## BD179G
designator Q?
Plastic Medium-Power, Silicon NPN Transistor, 3-Pin TO-225, Pb-Free, Bulk Box; Manufacturer: On Semiconductor; PartNumber: BD179G; fT Min (MHz): 3; DatasheetVersion: Rev. 15; PackageVersion: Rev. AC, 12/2013; PackageReference: TO-225-3-77-09; PackageDescription: 3-Pin Flange Mount, Vertical Straight Lead, Body 7.6 x 2.7 mm, Pitch 2.29 mm; Supplier 1: Digi-Key; Supplier Part Number 1: BD179GOS-ND; Supplier 2: Farnell; Supplier Part Number 2: 9557059; Supplier 3: Newark; Supplier Part Number 3: 26K3496; Supplier 4: Mouser; Supplier Part Number 4: 863-BD179G; IC Continuous (A): 3; Packing: Bulk Box; Polarity: NPN; RoHS: TRUE; Mounting Technology: Through Hole; ComponentLink1Description: Manufacturer URL; ComponentLink1URL: http://www.onsemi.com/; ComponentLink2Description: Datasheet; ComponentLink2URL: http://www.onsemi.com/pub_link/Collateral/BD179-D.PDF; ComponentLink3Description: Package Specification; ComponentLink3URL: http://www.onsemi.com/pub_link/Collateral/77-09.PDF
footprint ONSC-TO-225-3-77-09 (FM, 3-Leads, Body 7.8x3mm, Pitch 2.29mm)
pins: 1 E, 2 C, 3 B

## BD180
designator Q?
Plastic Medium-Power Silicon PNP Transistor, 3-Pin TO-225, Bulk Box; Manufacturer: On Semiconductor; PartNumber: BD180; fT Min (MHz): 3; IC Continuous (A): 1; DatasheetVersion: Rev. 13; PackageVersion: Rev. AC, 12/2013; PackageReference: TO-225-3-77-09; PackageDescription: 3-Pin Flange Mount, Vertical Straight Lead, Body 7.6 x 2.7 mm, Pitch 2.29 mm; Supplier 1: Digi-Key; Supplier Part Number 1: BD180-ND; Packing: Bulk Box; Polarity: PNP; RoHS: FALSE; Mounting Technology: Through Hole; ComponentLink1Description: Manufacturer URL; ComponentLink1URL: http://www.onsemi.com/; ComponentLink2Description: Datasheet; ComponentLink2URL: http://www.onsemi.com/pub_link/Collateral/BD180-D.PDF; ComponentLink3Description: Package Specification; ComponentLink3URL: http://www.onsemi.com/pub_link/Collateral/77-09.PDF
footprint ONSC-TO-225-3-77-09 (FM, 3-Leads, Body 7.8x3mm, Pitch 2.29mm)
pins: 1 E, 2 C, 3 B

## BD180G
designator Q?
Plastic Medium-Power Silicon PNP Transistor, 3-Pin TO-225, Pb-Free, Bulk Box; Manufacturer: On Semiconductor; PartNumber: BD180G; fT Min (MHz): 3; IC Continuous (A): 1; DatasheetVersion: Rev. 13; PackageVersion: Rev. AC, 12/2013; PackageReference: TO-225-3-77-09; PackageDescription: 3-Pin Flange Mount, Vertical Straight Lead, Body 7.6 x 2.7 mm, Pitch 2.29 mm; Supplier 1: Digi-Key; Supplier Part Number 1: BD180GOS-ND; Supplier 2: Farnell; Supplier Part Number 2: 9557067; Supplier 3: Newark; Supplier Part Number 3: 37K9432; Supplier 4: Newark; Supplier Part Number 4: 26K3497; Supplier 5: Mouser; Supplier Part Number 5: 863-BD180G; Packing: Bulk Box; Polarity: PNP; RoHS: TRUE; Mounting Technology: Through Hole; ComponentLink1Description: Manufacturer URL; ComponentLink1URL: http://www.onsemi.com/; ComponentLink2Description: Datasheet; ComponentLink2URL: http://www.onsemi.com/pub_link/Collateral/BD180-D.PDF; ComponentLink3Description: Package Specification; ComponentLink3URL: http://www.onsemi.com/pub_link/Collateral/77-09.PDF
footprint ONSC-TO-225-3-77-09 (FM, 3-Leads, Body 7.8x3mm, Pitch 2.29mm)
pins: 1 E, 2 C, 3 B

## BD234
designator Q?
Plastic Medium Power Bipolar Transistor, 3-Pin TO-225, Bulk Box; Manufacturer: On Semiconductor; PartNumber: BD234; fT Min (MHz): 3; IC Continuous (A): 2; Polarity: PNP; DatasheetVersion: Rev. 16; PackageVersion: Rev. AC, 12/2013; PackageReference: TO-225-3-77-09; PackageDescription: 3-Pin Flange Mount, Vertical Straight Lead, Body 7.6 x 2.7 mm, Pitch 2.29 mm; Supplier 1: Digi-Key; Supplier Part Number 1: BD234-ND; Packing: Bulk Box; RoHS: FALSE; Mounting Technology: Through Hole; ComponentLink1Description: Manufacturer URL; ComponentLink1URL: http://www.onsemi.com/; ComponentLink2Description: Datasheet; ComponentLink2URL: http://www.onsemi.com/pub_link/Collateral/BD237-D.PDF; ComponentLink3Description: Package Specification; ComponentLink3URL: http://www.onsemi.com/pub_link/Collateral/77-09.PDF
footprint ONSC-TO-225-3-77-09 (FM, 3-Leads, Body 7.8x3mm, Pitch 2.29mm)
pins: 1 E, 2 C, 3 B

## BD234G
designator Q?
Plastic Medium Power Bipolar Transistor, 3-Pin TO-225, Pb-Free, Bulk Box; Manufacturer: On Semiconductor; PartNumber: BD234G; fT Min (MHz): 3; IC Continuous (A): 2; Polarity: PNP; DatasheetVersion: Rev. 16; PackageVersion: Rev. AC, 12/2013; PackageReference: TO-225-3-77-09; PackageDescription: 3-Pin Flange Mount, Vertical Straight Lead, Body 7.6 x 2.7 mm, Pitch 2.29 mm; Supplier 1: Digi-Key; Supplier Part Number 1: BD234G-ND; Supplier 2: Newark; Supplier Part Number 2: 26K3498; Supplier 3: Mouser; Supplier Part Number 3: 863-BD234G; Packing: Bulk Box; RoHS: TRUE; Mounting Technology: Through Hole; ComponentLink1Description: Manufacturer URL; ComponentLink1URL: http://www.onsemi.com/; ComponentLink2Description: Datasheet; ComponentLink2URL: http://www.onsemi.com/pub_link/Collateral/BD237-D.PDF; ComponentLink3Description: Package Specification; ComponentLink3URL: http://www.onsemi.com/pub_link/Collateral/77-09.PDF
footprint ONSC-TO-225-3-77-09 (FM, 3-Leads, Body 7.8x3mm, Pitch 2.29mm)
pins: 1 E, 2 C, 3 B

## BD237
designator Q?
Plastic Medium Power Bipolar Transistor, 3-Pin TO-225, Bulk Box; Manufacturer: On Semiconductor; PartNumber: BD237; Note: 0; fT Min (MHz): 3; IC Continuous (A): 2; Polarity: NPN; DatasheetVersion: Rev. 16; PackageVersion: Rev. AC, 12/2013; PackageReference: TO-225-3-77-09; PackageDescription: 3-Pin Flange Mount, Vertical Straight Lead, Body 7.6 x 2.7 mm, Pitch 2.29 mm; Packing: Bulk Box; RoHS: FALSE; Mounting Technology: Through Hole; ComponentLink1Description: Manufacturer URL; ComponentLink1URL: http://www.onsemi.com/; ComponentLink2Description: Datasheet; ComponentLink2URL: http://www.onsemi.com/pub_link/Collateral/BD237-D.PDF; ComponentLink3Description: Package Specification; ComponentLink3URL: http://www.onsemi.com/pub_link/Collateral/77-09.PDF
footprint ONSC-TO-225-3-77-09 (FM, 3-Leads, Body 7.8x3mm, Pitch 2.29mm)
pins: 1 E, 2 C, 3 B

## BD237G
designator Q?
Plastic Medium Power Bipolar Transistor, 3-Pin TO-225, Pb-Free, Bulk Box; Manufacturer: On Semiconductor; PartNumber: BD237G; fT Min (MHz): 3; IC Continuous (A): 2; Polarity: NPN; DatasheetVersion: Rev. 16; PackageVersion: Rev. AC, 12/2013; PackageReference: TO-225-3-77-09; PackageDescription: 3-Pin Flange Mount, Vertical Straight Lead, Body 7.6 x 2.7 mm, Pitch 2.29 mm; Supplier 1: Digi-Key; Supplier Part Number 1: BD237GOS-ND; Supplier 2: Farnell; Supplier Part Number 2: 9557571; Supplier 3: Newark; Supplier Part Number 3: 26K3499; Supplier 4: Mouser; Supplier Part Number 4: 863-BD237G; Packing: Bulk Box; RoHS: TRUE; Mounting Technology: Through Hole; ComponentLink1Description: Manufacturer URL; ComponentLink1URL: http://www.onsemi.com/; ComponentLink2Description: Datasheet; ComponentLink2URL: http://www.onsemi.com/pub_link/Collateral/BD237-D.PDF; ComponentLink3Description: Package Specification; ComponentLink3URL: http://www.onsemi.com/pub_link/Collateral/77-09.PDF
footprint ONSC-TO-225-3-77-09 (FM, 3-Leads, Body 7.8x3mm, Pitch 2.29mm)
pins: 1 E, 2 C, 3 B

## BD238
designator Q?
Plastic Medium Power Bipolar Transistor, 3-Pin TO-225, Bulk Box; Manufacturer: On Semiconductor; PartNumber: BD238; Note: 0; fT Min (MHz): 3; IC Continuous (A): 2; Polarity: PNP; DatasheetVersion: Rev. 16; PackageVersion: Rev. AC, 12/2013; PackageReference: TO-225-3-77-09; PackageDescription: 3-Pin Flange Mount, Vertical Straight Lead, Body 7.6 x 2.7 mm, Pitch 2.29 mm; Packing: Bulk Box; RoHS: FALSE; Mounting Technology: Through Hole; ComponentLink1Description: Manufacturer URL; ComponentLink1URL: http://www.onsemi.com/; ComponentLink2Description: Datasheet; ComponentLink2URL: http://www.onsemi.com/pub_link/Collateral/BD237-D.PDF; ComponentLink3Description: Package Specification; ComponentLink3URL: http://www.onsemi.com/pub_link/Collateral/77-09.PDF
footprint ONSC-TO-225-3-77-09 (FM, 3-Leads, Body 7.8x3mm, Pitch 2.29mm)
pins: 1 E, 2 C, 3 B

## BD238G
designator Q?
Plastic Medium Power Bipolar Transistor, 3-Pin TO-225, Pb-Free, Bulk Box; Manufacturer: On Semiconductor; PartNumber: BD238G; fT Min (MHz): 3; IC Continuous (A): 2; Polarity: PNP; DatasheetVersion: Rev. 16; PackageVersion: Rev. AC, 12/2013; PackageReference: TO-225-3-77-09; PackageDescription: 3-Pin Flange Mount, Vertical Straight Lead, Body 7.6 x 2.7 mm, Pitch 2.29 mm; Supplier 1: Mouser; Supplier Part Number 1: 863-BD238G; Packing: Bulk Box; RoHS: TRUE; Mounting Technology: Through Hole; ComponentLink1Description: Manufacturer URL; ComponentLink1URL: http://www.onsemi.com/; ComponentLink2Description: Datasheet; ComponentLink2URL: http://www.onsemi.com/pub_link/Collateral/BD237-D.PDF; ComponentLink3Description: Package Specification; ComponentLink3URL: http://www.onsemi.com/pub_link/Collateral/77-09.PDF
footprint ONSC-TO-225-3-77-09 (FM, 3-Leads, Body 7.8x3mm, Pitch 2.29mm)
pins: 1 E, 2 C, 3 B

## BD241C
designator Q?
Complementary Silicon Plastic Power Transistor, 3-Pin TO-220, Tube; Manufacturer: On Semiconductor; PartNumber: BD241C; fT Min (MHz): 3; Polarity: NPN; DatasheetVersion: Rev. 9; PackageVersion: Rev. AG, 09/2011; PackageReference: TO-220-3-221A-09; PackageDescription: 3-Pin Flange Mount, Vertical Straight Lead, Body 9.97 x 4.445 mm, Pitch 2.54 mm; Supplier 1: Digi-Key; Supplier Part Number 1: BD241C-ND; IC Continuous (A): 3; Packing: Tube; RoHS: FALSE; Mounting Technology: Through Hole; ComponentLink1Description: Manufacturer URL; ComponentLink1URL: http://www.onsemi.com/; ComponentLink2Description: Datasheet; ComponentLink2URL: http://www.onsemi.com/pub_link/Collateral/BD241C-D.PDF; ComponentLink3Description: Package Specification; ComponentLink3URL: http://www.onsemi.com/pub_link/Collateral/221A-09.PDF
footprint ONSC-TO-220-3-221A-09 (FM, 3-Leads, Body 10.3x4.85mm, Pitch 2.54mm)
pins: 1 B, 2 C, 3 E

## BD241CG
designator Q?
Complementary Silicon Plastic Power Transistor, 3-Pin TO-220, Pb-Free, Tube; Manufacturer: On Semiconductor; PartNumber: BD241CG; fT Min (MHz): 3; Polarity: NPN; DatasheetVersion: Rev. 9; PackageVersion: Rev. AG, 09/2011; PackageReference: TO-220-3-221A-09; PackageDescription: 3-Pin Flange Mount, Vertical Straight Lead, Body 9.97 x 4.445 mm, Pitch 2.54 mm; Supplier 1: Digi-Key; Supplier Part Number 1: BD241CG-ND; Supplier 2: Newark; Supplier Part Number 2: 26K3501; Supplier 3: Mouser; Supplier Part Number 3: 863-BD241CG; IC Continuous (A): 3; Packing: Tube; RoHS: TRUE; Mounting Technology: Through Hole; ComponentLink1Description: Manufacturer URL; ComponentLink1URL: http://www.onsemi.com/; ComponentLink2Description: Datasheet; ComponentLink2URL: http://www.onsemi.com/pub_link/Collateral/BD241C-D.PDF; ComponentLink3Description: Package Specification; ComponentLink3URL: http://www.onsemi.com/pub_link/Collateral/221A-09.PDF
footprint ONSC-TO-220-3-221A-09 (FM, 3-Leads, Body 10.3x4.85mm, Pitch 2.54mm)
pins: 1 B, 2 C, 3 E

## BD242B
designator Q?
Complementary Silicon Plastic Power Transistor, 3-Pin TO-220, Tube; Manufacturer: On Semiconductor; PartNumber: BD242B; fT Min (MHz): 3; Polarity: PNP; DatasheetVersion: Rev. 9; PackageVersion: Rev. AG, 09/2011; PackageReference: TO-220-3-221A-09; PackageDescription: 3-Pin Flange Mount, Vertical Straight Lead, Body 9.97 x 4.445 mm, Pitch 2.54 mm; Supplier 1: Digi-Key; Supplier Part Number 1: BD242BOS-ND; IC Continuous (A): 3; Packing: Tube; RoHS: FALSE; Mounting Technology: Through Hole; ComponentLink1Description: Manufacturer URL; ComponentLink1URL: http://www.onsemi.com/; ComponentLink2Description: Datasheet; ComponentLink2URL: http://www.onsemi.com/pub_link/Collateral/BD241C-D.PDF; ComponentLink3Description: Package Specification; ComponentLink3URL: http://www.onsemi.com/pub_link/Collateral/221A-09.PDF
footprint ONSC-TO-220-3-221A-09 (FM, 3-Leads, Body 10.3x4.85mm, Pitch 2.54mm)
pins: 1 B, 2 C, 3 E

## BD242BG
designator Q?
Complementary Silicon Plastic Power Transistor, 3-Pin TO-220, Pb-Free, Tube; Manufacturer: On Semiconductor; PartNumber: BD242BG; fT Min (MHz): 3; Polarity: PNP; DatasheetVersion: Rev. 9; PackageVersion: Rev. AG, 09/2011; PackageReference: TO-220-3-221A-09; PackageDescription: 3-Pin Flange Mount, Vertical Straight Lead, Body 9.97 x 4.445 mm, Pitch 2.54 mm; Supplier 1: Digi-Key; Supplier Part Number 1: BD242BG-ND; Supplier 2: Newark; Supplier Part Number 2: 26K3502; Supplier 3: Mouser; Supplier Part Number 3: 863-BD242BG; IC Continuous (A): 3; Packing: Tube; RoHS: TRUE; Mounting Technology: Through Hole; ComponentLink1Description: Manufacturer URL; ComponentLink1URL: http://www.onsemi.com/; ComponentLink2Description: Datasheet; ComponentLink2URL: http://www.onsemi.com/pub_link/Collateral/BD241C-D.PDF; ComponentLink3Description: Package Specification; ComponentLink3URL: http://www.onsemi.com/pub_link/Collateral/221A-09.PDF
footprint ONSC-TO-220-3-221A-09 (FM, 3-Leads, Body 10.3x4.85mm, Pitch 2.54mm)
pins: 1 B, 2 C, 3 E

## BD242C
designator Q?
Complementary Silicon Plastic Power Transistor, 3-Pin TO-220, Tube; Manufacturer: On Semiconductor; PartNumber: BD242C; fT Min (MHz): 3; Polarity: PNP; DatasheetVersion: Rev. 9; PackageVersion: Rev. AG, 09/2011; PackageReference: TO-220-3-221A-09; PackageDescription: 3-Pin Flange Mount, Vertical Straight Lead, Body 9.97 x 4.445 mm, Pitch 2.54 mm; Supplier 1: Digi-Key; Supplier Part Number 1: BD242COS-ND; IC Continuous (A): 3; Packing: Tube; RoHS: FALSE; Mounting Technology: Through Hole; ComponentLink1Description: Manufacturer URL; ComponentLink1URL: http://www.onsemi.com/; ComponentLink2Description: Datasheet; ComponentLink2URL: http://www.onsemi.com/pub_link/Collateral/BD241C-D.PDF; ComponentLink3Description: Package Specification; ComponentLink3URL: http://www.onsemi.com/pub_link/Collateral/221A-09.PDF
footprint ONSC-TO-220-3-221A-09 (FM, 3-Leads, Body 10.3x4.85mm, Pitch 2.54mm)
pins: 1 B, 2 C, 3 E

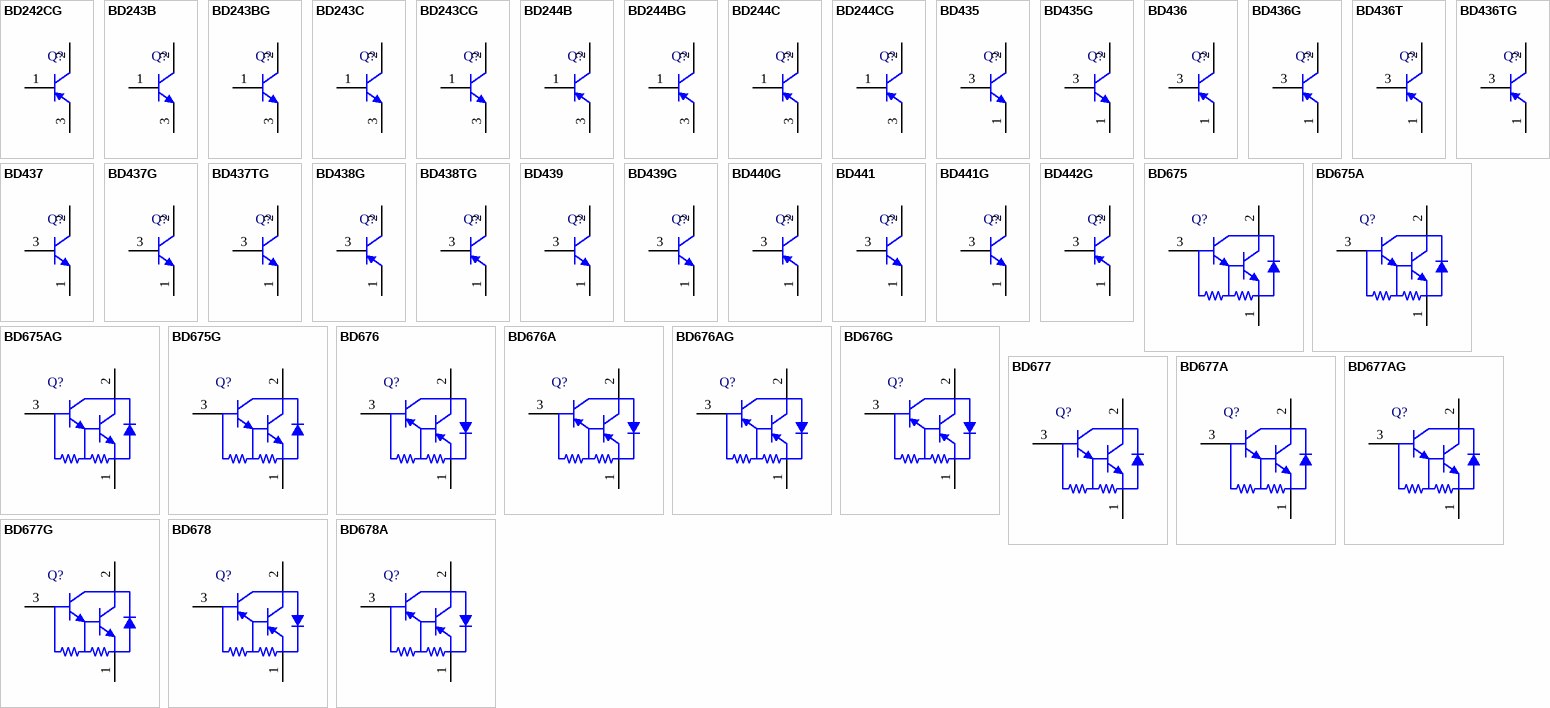
[diagram p28: symbols BD242CG to BD678A]

## BD242CG
designator Q?
Complementary Silicon Plastic Power Transistor, 3-Pin TO-220, Pb-Free, Tube; Manufacturer: On Semiconductor; PartNumber: BD242CG; fT Min (MHz): 3; Polarity: PNP; DatasheetVersion: Rev. 9; PackageVersion: Rev. AG, 09/2011; PackageReference: TO-220-3-221A-09; PackageDescription: 3-Pin Flange Mount, Vertical Straight Lead, Body 9.97 x 4.445 mm, Pitch 2.54 mm; Supplier 1: Digi-Key; Supplier Part Number 1: BD242CGOS-ND; Supplier 2: Farnell; Supplier Part Number 2: 9555820; Supplier 3: Newark; Supplier Part Number 3: 37K9435; Supplier 4: Newark; Supplier Part Number 4: 26K3503; Supplier 5: Mouser; Supplier Part Number 5: 863-BD242CG; IC Continuous (A): 3; Packing: Tube; RoHS: TRUE; Mounting Technology: Through Hole; ComponentLink1Description: Manufacturer URL; ComponentLink1URL: http://www.onsemi.com/; ComponentLink2Description: Datasheet; ComponentLink2URL: http://www.onsemi.com/pub_link/Collateral/BD241C-D.PDF; ComponentLink3Description: Package Specification; ComponentLink3URL: http://www.onsemi.com/pub_link/Collateral/221A-09.PDF
footprint ONSC-TO-220-3-221A-09 (FM, 3-Leads, Body 10.3x4.85mm, Pitch 2.54mm)
pins: 1 B, 2 C, 3 E

## BD243B
designator Q?
Complementary Silicon Plastic Power Transistor, 3-Pin TO-220, Tube; Manufacturer: On Semiconductor; PartNumber: BD243B; Note: 0; fT Min (MHz): 3; IC Continuous (A): 6; Polarity: NPN; DatasheetVersion: Rev. 14; PackageVersion: Rev. AG, 09/2011; PackageReference: TO-220-3-221A-09; PackageDescription: 3-Pin Flange Mount, Vertical Straight Lead, Body 9.97 x 4.445 mm, Pitch 2.54 mm; Packing: Tube; RoHS: FALSE; Mounting Technology: Through Hole; ComponentLink1Description: Manufacturer URL; ComponentLink1URL: http://www.onsemi.com/; ComponentLink2Description: Datasheet; ComponentLink2URL: http://www.onsemi.com/pub_link/Collateral/BD243B-D.PDF; ComponentLink3Description: Package Specification; ComponentLink3URL: http://www.onsemi.com/pub_link/Collateral/221A-09.PDF
footprint ONSC-TO-220-3-221A-09 (FM, 3-Leads, Body 10.3x4.85mm, Pitch 2.54mm)
pins: 1 B, 2 C, 3 E

## BD243BG
designator Q?
Complementary Silicon Plastic Power Transistor, 3-Pin TO-220, Pb-Free, Tube; Manufacturer: On Semiconductor; PartNumber: BD243BG; fT Min (MHz): 3; IC Continuous (A): 6; Polarity: NPN; DatasheetVersion: Rev. 14; PackageVersion: Rev. AG, 09/2011; PackageReference: TO-220-3-221A-09; PackageDescription: 3-Pin Flange Mount, Vertical Straight Lead, Body 9.97 x 4.445 mm, Pitch 2.54 mm; Supplier 1: Mouser; Supplier Part Number 1: 863-BD243BG; Packing: Tube; RoHS: TRUE; Mounting Technology: Through Hole; ComponentLink1Description: Manufacturer URL; ComponentLink1URL: http://www.onsemi.com/; ComponentLink2Description: Datasheet; ComponentLink2URL: http://www.onsemi.com/pub_link/Collateral/BD243B-D.PDF; ComponentLink3Description: Package Specification; ComponentLink3URL: http://www.onsemi.com/pub_link/Collateral/221A-09.PDF
footprint ONSC-TO-220-3-221A-09 (FM, 3-Leads, Body 10.3x4.85mm, Pitch 2.54mm)
pins: 1 B, 2 C, 3 E

## BD243C
designator Q?
Complementary Silicon Plastic Power Transistor, 3-Pin TO-220, Tube; Manufacturer: On Semiconductor; PartNumber: BD243C; Note: 0; fT Min (MHz): 3; IC Continuous (A): 6; Polarity: NPN; DatasheetVersion: Rev. 14; PackageVersion: Rev. AG, 09/2011; PackageReference: TO-220-3-221A-09; PackageDescription: 3-Pin Flange Mount, Vertical Straight Lead, Body 9.97 x 4.445 mm, Pitch 2.54 mm; Packing: Tube; RoHS: FALSE; Mounting Technology: Through Hole; ComponentLink1Description: Manufacturer URL; ComponentLink1URL: http://www.onsemi.com/; ComponentLink2Description: Datasheet; ComponentLink2URL: http://www.onsemi.com/pub_link/Collateral/BD243B-D.PDF; ComponentLink3Description: Package Specification; ComponentLink3URL: http://www.onsemi.com/pub_link/Collateral/221A-09.PDF
footprint ONSC-TO-220-3-221A-09 (FM, 3-Leads, Body 10.3x4.85mm, Pitch 2.54mm)
pins: 1 B, 2 C, 3 E

## BD243CG
designator Q?
Complementary Silicon Plastic Power Transistor, 3-Pin TO-220, Pb-Free, Tube; Manufacturer: On Semiconductor; PartNumber: BD243CG; fT Min (MHz): 3; IC Continuous (A): 6; Polarity: NPN; DatasheetVersion: Rev. 14; PackageVersion: Rev. AG, 09/2011; PackageReference: TO-220-3-221A-09; PackageDescription: 3-Pin Flange Mount, Vertical Straight Lead, Body 9.97 x 4.445 mm, Pitch 2.54 mm; Supplier 1: Digi-Key; Supplier Part Number 1: BD243CGOS-ND; Supplier 2: Newark; Supplier Part Number 2: 26K3505; Supplier 3: Mouser; Supplier Part Number 3: 863-BD243CG; Packing: Tube; RoHS: TRUE; Mounting Technology: Through Hole; ComponentLink1Description: Manufacturer URL; ComponentLink1URL: http://www.onsemi.com/; ComponentLink2Description: Datasheet; ComponentLink2URL: http://www.onsemi.com/pub_link/Collateral/BD243B-D.PDF; ComponentLink3Description: Package Specification; ComponentLink3URL: http://www.onsemi.com/pub_link/Collateral/221A-09.PDF
footprint ONSC-TO-220-3-221A-09 (FM, 3-Leads, Body 10.3x4.85mm, Pitch 2.54mm)
pins: 1 B, 2 C, 3 E

## BD244B
designator Q?
Complementary Silicon Plastic Power Transistor, 3-Pin TO-220, Tube; Manufacturer: On Semiconductor; PartNumber: BD244B; fT Min (MHz): 3; IC Continuous (A): 6; Polarity: PNP; DatasheetVersion: Rev. 14; PackageVersion: Rev. AG, 09/2011; PackageReference: TO-220-3-221A-09; PackageDescription: 3-Pin Flange Mount, Vertical Straight Lead, Body 9.97 x 4.445 mm, Pitch 2.54 mm; Supplier 1: Digi-Key; Supplier Part Number 1: BD244BOS-ND; Packing: Tube; RoHS: FALSE; Mounting Technology: Through Hole; ComponentLink1Description: Manufacturer URL; ComponentLink1URL: http://www.onsemi.com/; ComponentLink2Description: Datasheet; ComponentLink2URL: http://www.onsemi.com/pub_link/Collateral/BD243B-D.PDF; ComponentLink3Description: Package Specification; ComponentLink3URL: http://www.onsemi.com/pub_link/Collateral/221A-09.PDF
footprint ONSC-TO-220-3-221A-09 (FM, 3-Leads, Body 10.3x4.85mm, Pitch 2.54mm)
pins: 1 B, 2 C, 3 E

## BD244BG
designator Q?
Complementary Silicon Plastic Power Transistor, 3-Pin TO-220, Pb-Free, Tube; Manufacturer: On Semiconductor; PartNumber: BD244BG; fT Min (MHz): 3; IC Continuous (A): 6; Polarity: PNP; DatasheetVersion: Rev. 14; PackageVersion: Rev. AG, 09/2011; PackageReference: TO-220-3-221A-09; PackageDescription: 3-Pin Flange Mount, Vertical Straight Lead, Body 9.97 x 4.445 mm, Pitch 2.54 mm; Supplier 1: Digi-Key; Supplier Part Number 1: BD244BG-ND; Supplier 2: Newark; Supplier Part Number 2: 26K3506; Supplier 3: Mouser; Supplier Part Number 3: 863-BD244BG; Packing: Tube; RoHS: TRUE; Mounting Technology: Through Hole; ComponentLink1Description: Manufacturer URL; ComponentLink1URL: http://www.onsemi.com/; ComponentLink2Description: Datasheet; ComponentLink2URL: http://www.onsemi.com/pub_link/Collateral/BD243B-D.PDF; ComponentLink3Description: Package Specification; ComponentLink3URL: http://www.onsemi.com/pub_link/Collateral/221A-09.PDF
footprint ONSC-TO-220-3-221A-09 (FM, 3-Leads, Body 10.3x4.85mm, Pitch 2.54mm)
pins: 1 B, 2 C, 3 E

## BD244C
designator Q?
Complementary Silicon Plastic Power Transistor, 3-Pin TO-220, Tube; Manufacturer: On Semiconductor; PartNumber: BD244C; Note: 0; fT Min (MHz): 3; IC Continuous (A): 6; Polarity: PNP; DatasheetVersion: Rev. 14; PackageVersion: Rev. AG, 09/2011; PackageReference: TO-220-3-221A-09; PackageDescription: 3-Pin Flange Mount, Vertical Straight Lead, Body 9.97 x 4.445 mm, Pitch 2.54 mm; Packing: Tube; RoHS: FALSE; Mounting Technology: Through Hole; ComponentLink1Description: Manufacturer URL; ComponentLink1URL: http://www.onsemi.com/; ComponentLink2Description: Datasheet; ComponentLink2URL: http://www.onsemi.com/pub_link/Collateral/BD243B-D.PDF; ComponentLink3Description: Package Specification; ComponentLink3URL: http://www.onsemi.com/pub_link/Collateral/221A-09.PDF
footprint ONSC-TO-220-3-221A-09 (FM, 3-Leads, Body 10.3x4.85mm, Pitch 2.54mm)
pins: 1 B, 2 C, 3 E